# Altium schematic symbol library CONN_DB.SchLib: 1 symbol
Pins are listed as number, name and electrical type; pins without a type are passive.

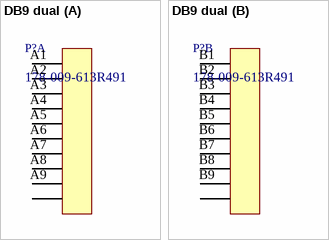
[diagram p0: symbol DB9 dual]

## DB9 dual
designator P?, comment 178-009-613R491
Manufacturer: NorComp; Name: 178-009-613R491; BOMString: 178-009-613R491; HelpURL: http://www.farnell.com/datasheets/1783515.pdf
footprint 178-009-613R491
part A pins: 0, A1 VCC, A2 VCC, A3 VCC, A4 VCC, A5 VCC, A6 VCC, A7 VCC, A8 VCC, A9 VCC
part B pins: 0, B1 VCC, B2 VCC, B3 VCC, B4 VCC, B5 VCC, B6 VCC, B7 VCC, B8 VCC, B9 VCC